# EAGLE library part H11L1M (library H11L1M)
Logic compatible output sinks 16mA at 0.4Vmaximum; High data rate, 1MHz typical (NRZ); Microprocessor compatible drive; Underwriters Laboratory (UL) recognizedfile #E90700, Volume 2; Guaranteed on/off threshold hysteresis ; Wide supply voltage capability, compatible with allpopular logic systems; Free from latch up and oscilliation throughout voltageand temperature ranges.; VDE recognized File#102497 Add option V(e.g., H11LIVM) Source: Datasheet <https://www.onsemi.com/pub/Collateral/H11L3M-D.PDF>
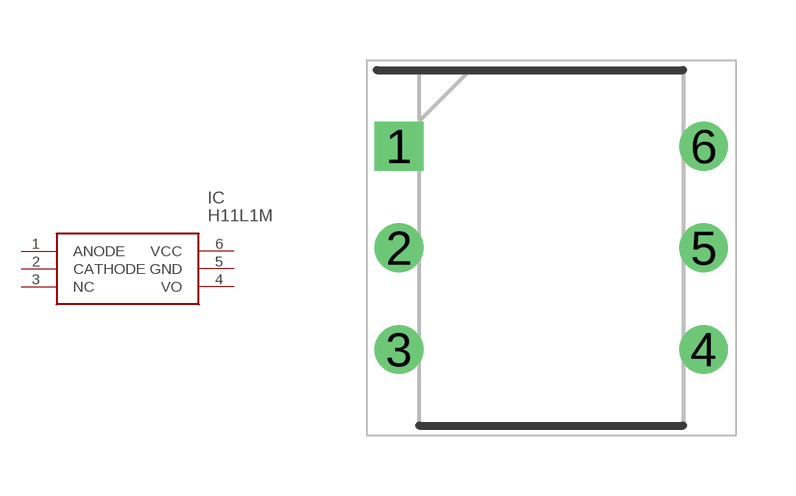
[diagram p0: symbol with the pads of DIP762W51P254L851H508Q6N; footprint DIP762W51P254L851H508Q6N]

Designator prefix IC

## H11L1M (Description: Logic compatible output sinks 16mA at 0.4Vmaximum; High data rate, 1MHz typical (NRZ); Microprocessor compatible drive; Underwriters Laboratory (UL) recognizedfile #E90700, Volume 2; Guaranteed on/off threshold hysteresis ; Wide supply voltage capability, compatible with allpopular logic systems; Free from latch up and oscilliation throughout voltageand temperature ranges.; VDE recognized File#102497 Add option V(e.g., H11LIVM); Height: 5.08mm; Manufacturer_Name: onsemi; Manufacturer_Part_Number: H11L1M; Mouser_Part_Number: 512-H11L1M; Mouser_Price-Stock: https://www.mouser.co.uk/ProductDetail/onsemi-Fairchild/H11L1M?qs=P36CEcFBmYxn5ViwkIckpw%3D%3D)  [DIP762W51P254L851H508Q6N]
1  ANODE
2  CATHODE
3  NC  nc
4  VO
5  GND
6  VCC

## Footprint DIP762W51P254L851H508Q6N (pad centres in mm)
PDIP6 8.51x6.35, 2.54P 1
drill 0.71 pad 1.11 square: 1 -3.81,2.54
drill 0.71 pad 1.11: 2 -3.81,0; 3 -3.81,-2.54; 4 3.81,-2.54; 5 3.81,0; 6 3.81,2.54